# EAGLE library part LV8402GP (library Railstars)
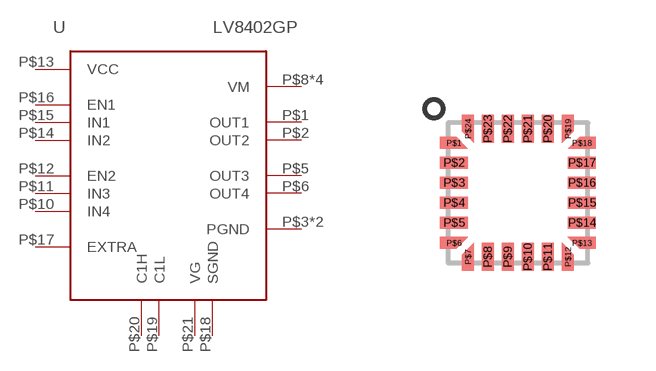
[diagram p32: symbol with the pads of VCT24(3.5X3.5); footprint VCT24(3.5X3.5)]

Designator prefix -

## LV8402GP  [VCT24(3.5X3.5)]
P$1  OUT1
P$2  OUT2
P$3  PGND
P$4  PGND
P$5  OUT3
P$6  OUT4
P$8  VM
P$9  VM
P$10  IN4
P$11  IN3
P$12  EN2
P$13  VCC
P$14  IN2
P$15  IN1
P$16  EN1
P$17  EXTRA
P$18  SGND
P$19  C1L
P$20  C1H
P$21  VG
P$22  VM
P$23  VM

## Footprint VCT24(3.5X3.5) (pad centres in mm)
smd 0.1 x 0.1: P$1 -1.6,1.25; P$6 -1.6,-1.25; P$7 -1.25,-1.6; P$12 1.25,-1.6; P$13 1.6,-1.25; P$18 1.6,1.25; P$19 1.25,1.6; P$24 -1.25,1.6
smd 0.7 x 0.3: P$2 -1.6,0.75; P$3 -1.6,0.25; P$4 -1.6,-0.25; P$5 -1.6,-0.75; P$14 1.6,-0.75; P$15 1.6,-0.25; P$16 1.6,0.25; P$17 1.6,0.75
smd 0.3 x 0.7: P$8 -0.75,-1.6; P$9 -0.25,-1.6; P$10 0.25,-1.6; P$11 0.75,-1.6; P$20 0.75,1.6; P$21 0.25,1.6; P$22 -0.25,1.6; P$23 -0.75,1.6